# EAGLE library part PCA9665 (library I2CBB-parts)
IC CNTRLR PARALLEL/I2C 20TSSOP
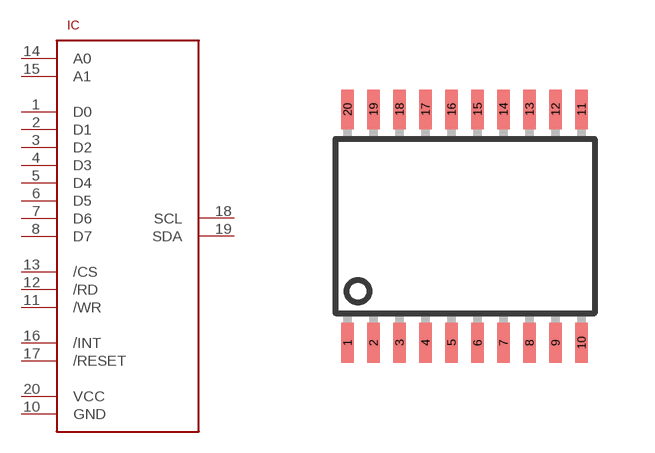
[diagram p1: symbol with the pads of TSSOP20; footprint TSSOP20]

Designator prefix IC

## PCA9665  [TSSOP20]
1  D0
2  D1
3  D2
4  D3
5  D4
6  D5
7  D6
8  D7
10  GND  pwr
11  /WR  in
12  /RD  in
13  /CS  in
14  A0  in
15  A1  in
16  /INT  in
17  /RESET  in
18  SCL
19  SDA
20  VCC  pwr

## Footprint TSSOP20 (pad centres in mm)
20-Lead Thin Shrink Small Outline Package TSSOP (RU-20) Derived from TSSOP-24 Source: http://www.analog.com/UploadedFiles/Data_Sheets/39677768AD7714_c.pdf
smd 0.305 x 0.991: 1 -2.975,-2.918; 2 -2.325,-2.918; 3 -1.675,-2.918; 4 -1.025,-2.918; 5 -0.375,-2.918; 6 0.275,-2.918; 7 0.925,-2.918; 8 1.575,-2.918; 9 2.225,-2.918; 10 2.875,-2.918; 11 2.875,2.918; 12 2.225,2.918; 13 1.575,2.918; 14 0.925,2.918; 15 0.275,2.918; 16 -0.375,2.918; 17 -1.025,2.918; 18 -1.675,2.918; 19 -2.325,2.918; 20 -2.975,2.918